# Altium schematic symbol library MB0047A.01.A.1.SchLib: 1 symbol
Pins are listed as number, name and electrical type; pins without a type are passive.

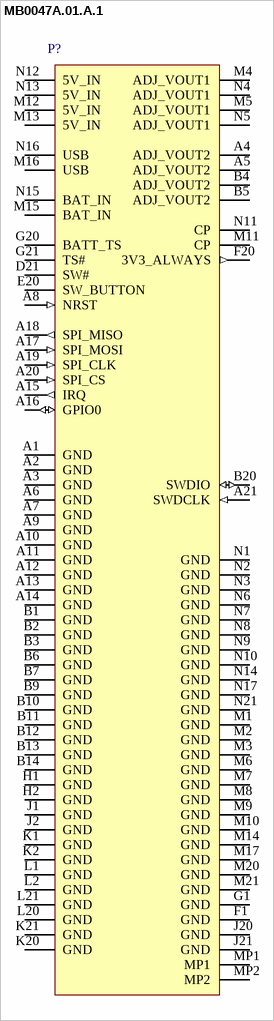
[diagram p0: symbol MB0047A.01.A.1]

## MB0047A.01.A.1
designator P?
pins: 51 (power) hidden, A1 GND (power), A2 GND (power), A3 GND (power), A4 ADJ_VOUT2 (power), A5 ADJ_VOUT2 (power), A6 GND (power), A7 GND (power), A8 NRST (in), A9 GND (power), A10 GND (power), A11 GND (power), A12 GND (power), A13 GND (power), A14 GND (power), A15 IRQ (out), A16 GPIO0 (io), A17 SPI_MOSI (in), A18 SPI_MISO (out), A19 SPI_CLK (in), A20 SPI_CS (in), A21 SWDCLK (in), B1 GND (power), B2 GND (power), B3 GND (power), B4 ADJ_VOUT2 (power), B5 ADJ_VOUT2 (power), B6 GND (power), B7 GND (power), B9 GND (power), B10 GND (power), B11 GND (power), B12 GND (power), B13 GND (power), B14 GND (power), B20 SWDIO (io), D21 SW#, E20 SW_BUTTON (power), F1 GND (power), F20 3V3_ALWAYS (out), G1 GND (power), G20 BATT_TS, G21 TS#, H1 GND (power), H2 GND (power), J1 GND (power), J2 GND (power), J20 GND (power), J21 GND (power), K1 GND (power), K2 GND (power), K20 GND (power), K21 GND (power), L1 GND (power), L2 GND (power), L20 GND (power), L21 GND (power), M1 GND (power), M2 GND (power), M3 GND (power), M4 ADJ_VOUT1 (power), M5 ADJ_VOUT1 (power), M6 GND (power), M7 GND (power), M8 GND (power), M9 GND (power), M10 GND (power), M11 CP (power), M12 5V_IN (power), M13 5V_IN (power), M14 GND (power), M15 BAT_IN (power), M16 USB (power), M17 GND (power), M20 GND (power), M21 GND (power), MP1 (power), MP2 (power), N1 GND (power), N2 GND (power), N3 GND (power), N4 ADJ_VOUT1 (power), N5 ADJ_VOUT1 (power), N6 GND (power), N7 GND (power), N8 GND (power), N9 GND (power), N10 GND (power), N11 CP (power), N12 5V_IN (power), N13 5V_IN (power), N14 GND (power), N15 BAT_IN (power), N16 USB (power), N17 GND (power), N21 GND (power)